# Altium footprint library CR-1206.PcbLib: 1 footprints
Each footprint in its own frame and in the unit in brackets; x right, y up, seen from the top. Pads: shape width x height; smd on the part's side, far side on the other; paste and mask are expansions set on the pad; w line width, h text height; cw(c..) or ccw(c..) is an arc to the next point about the centre after c.
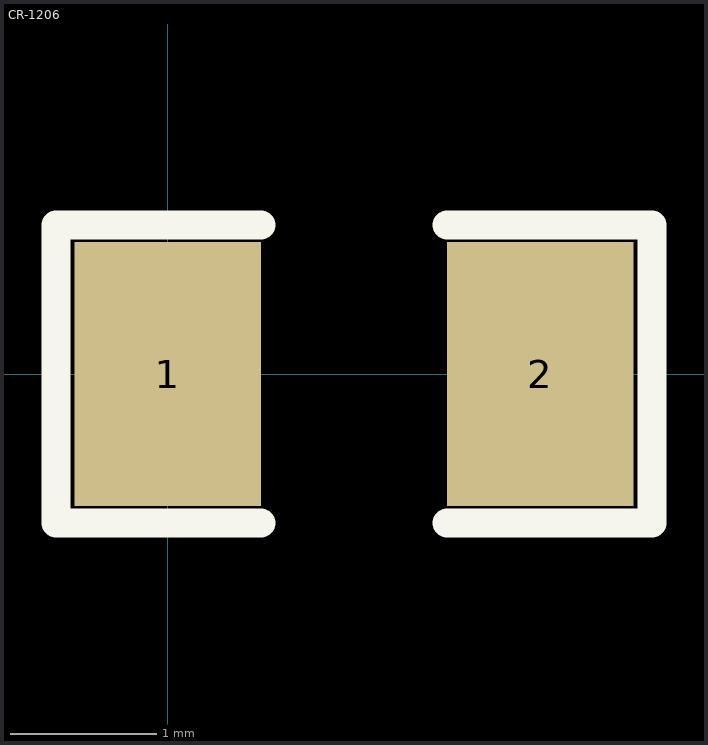
[diagram p0: the footprint, top view; thin cyan lines are the x and y axes]

## CR-1206 [mm]
height 1.27
pads (2):
  rect 1.27x1.8 smd: 1(0,0) 2(2.54,0)
Top Overlay:
  lines w0.2: 0.635,-1.016 -0.762,-1.016 -0.762,1.016 0.635,1.016 ; 1.905,-1.016 3.302,-1.016 3.302,1.016 1.905,1.016
3D body: height 0.51, standoff 0, extent -0.254,-0.762 2.794,0.762